# EAGLE library part MAX31855_SOCKET (library max31855)
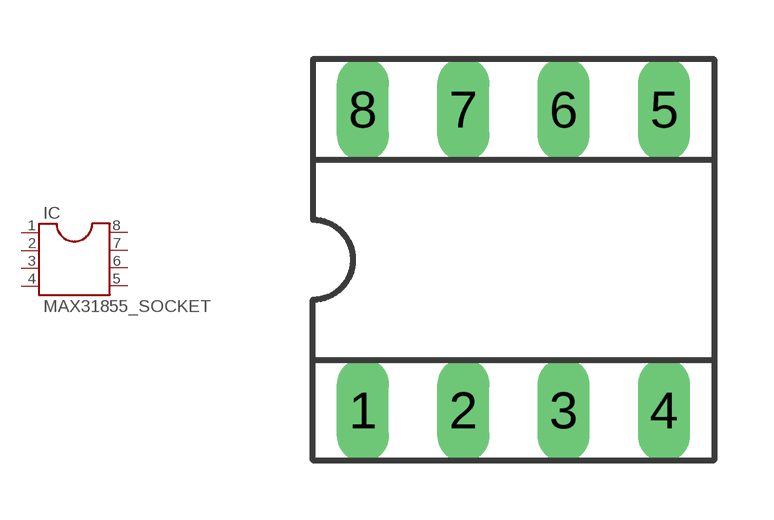
[diagram p0: symbol with the pads of MAX31855_SOCKET; footprint MAX31855_SOCKET]

Designator prefix IC

## MAX31855_SOCKETS  [MAX31855_SOCKET]
1  GND  pas
2  T-  pas
3  T+  pas
4  VCC  pas
5  SCK  pas
6  /CS  pas
7  SD  pas
8  8  pas

## Footprint MAX31855_SOCKET (pad centres in mm)
drill 0.813 long: 1 -3.81,-3.81; 2 -1.27,-3.81; 3 1.27,-3.81; 4 3.81,-3.81; 5 3.81,3.81; 6 1.27,3.81; 7 -1.27,3.81; 8 -3.81,3.81